# Altium schematic symbol library SCH - LEVEL TRANSLATOR - TI TXU0101.SchLib: 1 symbol
Pins are listed as number, name and electrical type; pins without a type are passive.

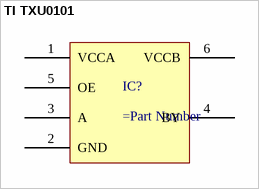
[diagram p0: symbol TI TXU0101]

## TI TXU0101
designator IC?
pins: 1 VCCA, 2 GND, 3 A, 4 BY, 5 OE, 6 VCCB